# EAGLE library part MAX14830 (library barthess)
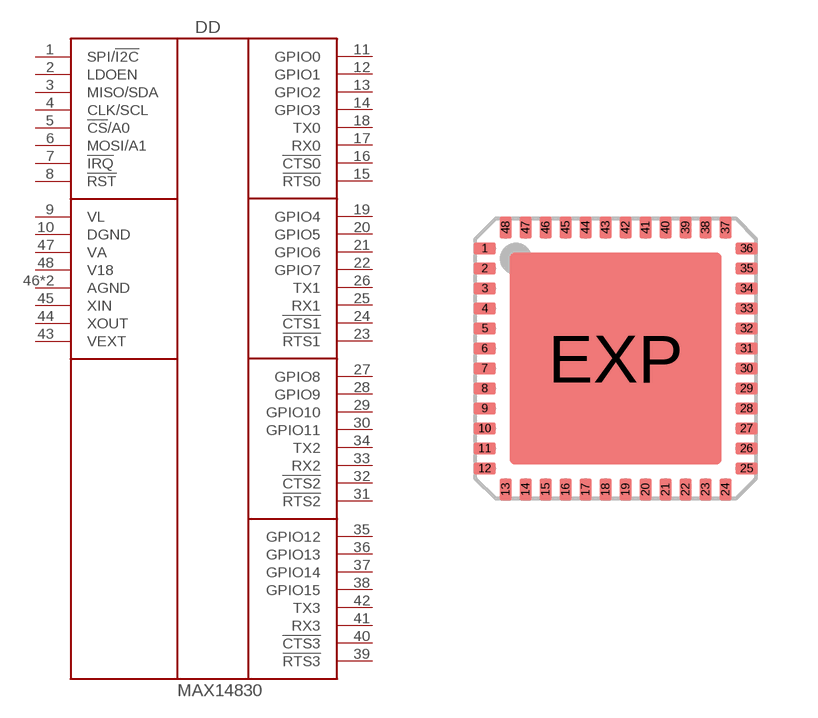
[diagram p40: symbol with the pads of QFN48; footprint QFN48]

Designator prefix DD

## MAX14830ETM  [QFN48]
1  SPI/!I2C  in
2  LDOEN  in
3  MISO/SDA  out
4  CLK/SCL  in
5  !CS!/A0  in
6  MOSI/A1  in
7  !IRQ  out
8  !RST  in
9  VL  pwr
10  DGND  pwr
11  GPIO0
12  GPIO1
13  GPIO2
14  GPIO3
15  !RTS0  out
16  !CTS0  in
17  RX0  in
18  TX0  out
19  GPIO4
20  GPIO5
21  GPIO6
22  GPIO7
23  !RTS1  out
24  !CTS1  in
25  RX1  in
26  TX1  out
27  GPIO8
28  GPIO9
29  GPIO10
30  GPIO11
31  !RTS2  out
32  !CTS2  in
33  RX2  in
34  TX2  out
35  GPIO12
36  GPIO13
37  GPIO14
38  GPIO15
39  !RTS3  out
40  !CTS3  in
41  RX3  in
42  TX3  out
43  VEXT  pwr
44  XOUT  pwr
45  XIN  pwr
46  AGND  pwr
47  VA  pwr
48  V18  pwr
EXP  AGND  pwr

## Footprint QFN48 (pad centres in mm)
48-pin QFN 7 x 7 mm LF48 48 Quad Flat Package No Leads Source: http://v4.cypress.com/cfuploads/img/products/cywusb6934.pdf
smd 0.55 x 0.3: 1 -3.275,2.75; 2 -3.275,2.25; 3 -3.275,1.75; 4 -3.275,1.25; 5 -3.275,0.75; 6 -3.275,0.25; 7 -3.275,-0.25; 8 -3.275,-0.75; 9 -3.275,-1.25; 10 -3.275,-1.75; 11 -3.275,-2.25; 12 -3.275,-2.75; 25 3.275,-2.75; 26 3.275,-2.25; 27 3.275,-1.75; 28 3.275,-1.25; 29 3.275,-0.75; 30 3.275,-0.25; 31 3.275,0.25; 32 3.275,0.75; 33 3.275,1.25; 34 3.275,1.75; 35 3.275,2.25; 36 3.275,2.75
smd 0.3 x 0.55: 13 -2.75,-3.275; 14 -2.25,-3.275; 15 -1.75,-3.275; 16 -1.25,-3.275; 17 -0.75,-3.275; 18 -0.25,-3.275; 19 0.25,-3.275; 20 0.75,-3.275; 21 1.25,-3.275; 22 1.75,-3.275; 23 2.25,-3.275; 24 2.75,-3.275; 37 2.75,3.275; 38 2.25,3.275; 39 1.75,3.275; 40 1.25,3.275; 41 0.75,3.275; 42 0.25,3.275; 43 -0.25,3.275; 44 -0.75,3.275; 45 -1.25,3.275; 46 -1.75,3.275; 47 -2.25,3.275; 48 -2.75,3.275
smd 5.309 x 5.309: EXP 0,0